# Altium footprint library PcbLib2.PcbLib: 1 footprints
Each footprint in its own frame and in the unit in brackets; x right, y up, seen from the top. Pads: shape width x height; smd on the part's side, far side on the other; paste and mask are expansions set on the pad; w line width, h text height; cw(c..) or ccw(c..) is an arc to the next point about the centre after c.
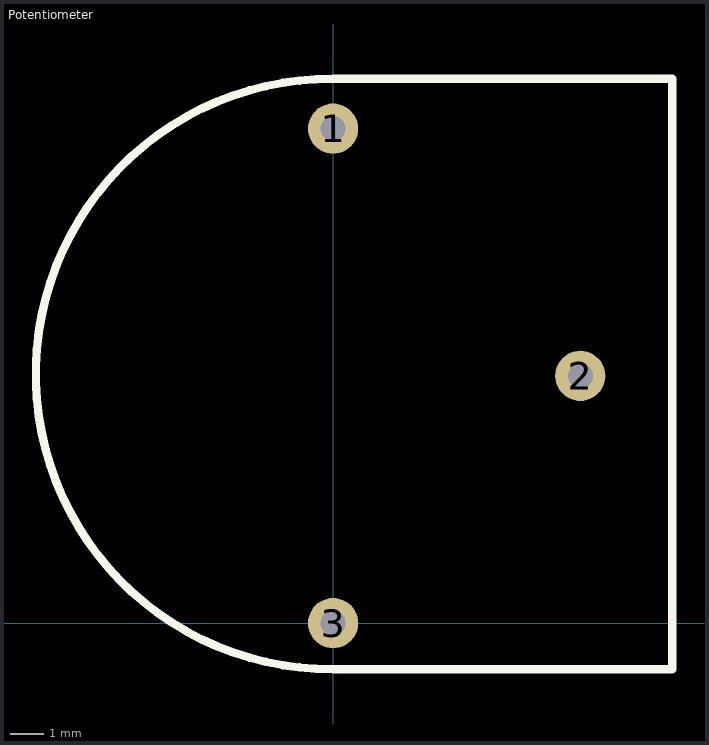
[diagram p0: the footprint, top view; thin cyan lines are the x and y axes]

## Potentiometer [mil]
pads (3):
  round 60 hole 30: 1(0,590.55) 2(295.28,295.28) 3(0,0)
Top Overlay:
  lines w10: 0,-55 cw(c-2.57,297.5) 0,650 405,650 405,-55 0,-55